# Altium footprint library 12V Relay Gen SPDT.PcbLib: 1 footprints
Each footprint in its own frame and in the unit in brackets; x right, y up, seen from the top. Pads: shape width x height; smd on the part's side, far side on the other; paste and mask are expansions set on the pad; w line width, h text height; cw(c..) or ccw(c..) is an arc to the next point about the centre after c.
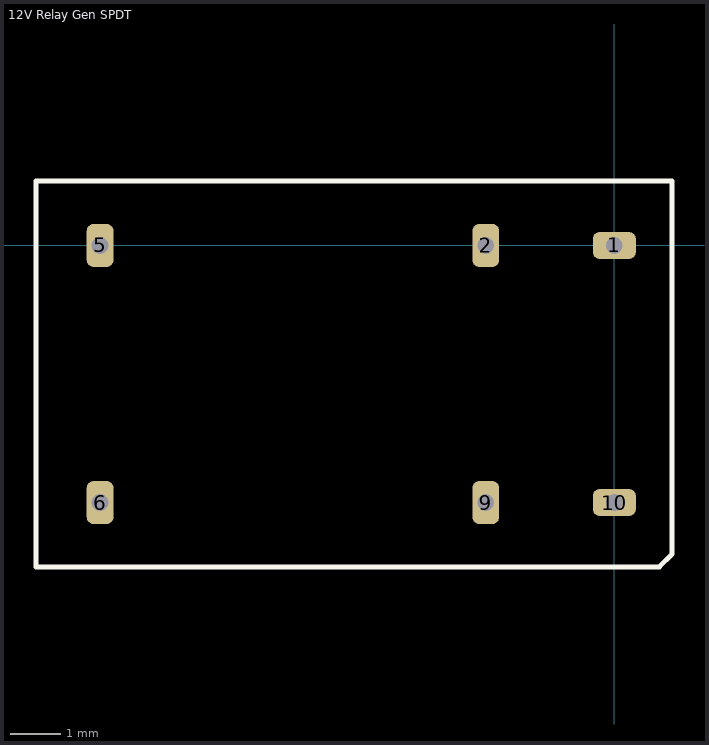
[diagram p0: the footprint, top view; thin cyan lines are the x and y axes]

## 12V Relay Gen SPDT [mm]
pads (6):
  rrect50% 0.85x0.529 hole 0.33 square: 1(0,0) 10(0,-5.08)
  rrect50% 0.529x0.85 hole 0.33 square: 2(-2.54,0) 5(-10.16,0) 6(-10.16,-5.08) 9(-2.54,-5.08)
Top Overlay:
  lines w0.1: -11.43,-6.35 -11.43,-6.223 -11.43,1.27 1.143,1.27 1.143,-6.096 0.889,-6.35 -11.43,-6.35
3D body "G5V_1.step": height 10, standoff -3.5, extent -11.43,-6.29 1.07,1.21